# Altium footprint library VFQFPN8-4X4.PcbLib: 1 footprints
Each footprint in its own frame and in the unit in brackets; x right, y up, seen from the top. Pads: shape width x height; smd on the part's side, far side on the other; paste and mask are expansions set on the pad; w line width, h text height; cw(c..) or ccw(c..) is an arc to the next point about the centre after c.
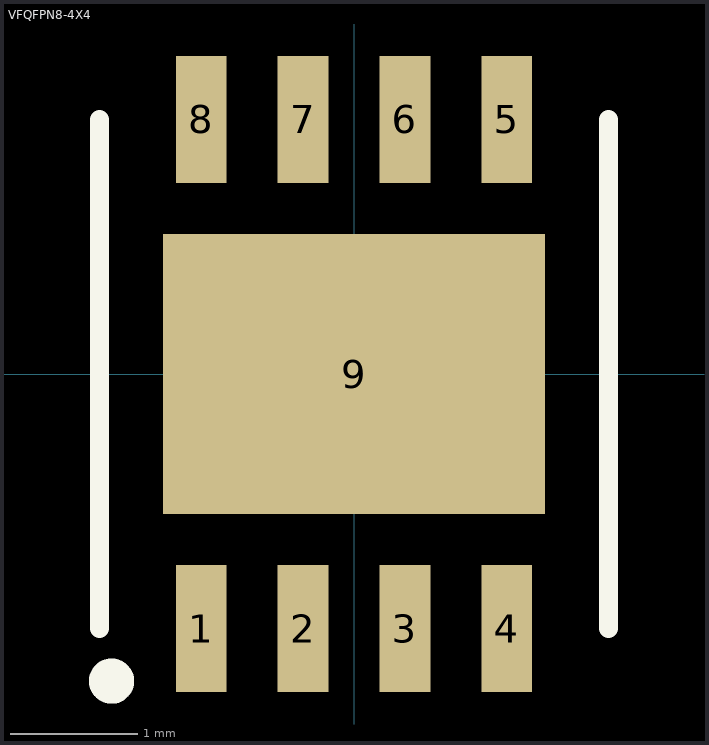
[diagram p0: the footprint, top view; thin cyan lines are the x and y axes]

## VFQFPN8-4X4 [mm]
pads (9):
  rect 0.4x1 smd paste+0 mask+0.102: 1(-1.2,-2) 2(-0.4,-2) 3(0.4,-2) 4(1.2,-2) 5(1.2,2) 6(0.4,2) 7(-0.4,2) 8(-1.2,2)
  rect 3x2.2 smd paste+0 mask+0.102: 9(0,0)
Top Overlay:
  circle w0.254: c-1.905,-2.413 r0.051
  lines w0.15: -2,-2 -2,-1 -2,2 ; 2,-2 2,2
3D body "step_temp.STEP": height 1, standoff 0, extent -2.05,-2.05 2.05,2.05